# EAGLE library part 54104-4031 (library 54104-4031)
Connector 0.5mm, FFC/FPC, SMT,r/a,40w,Au Molex FFC/FPC SMT Series 0.5mm Pitch 40 Way Right Angle SMT Female FPC Connector, ZIF Top Contact Source: Datasheet <http://www.molex.com/webdocs/datasheets/pdf/en-us//0541044031_FFC_FPC_CONNECTORS.pdf>
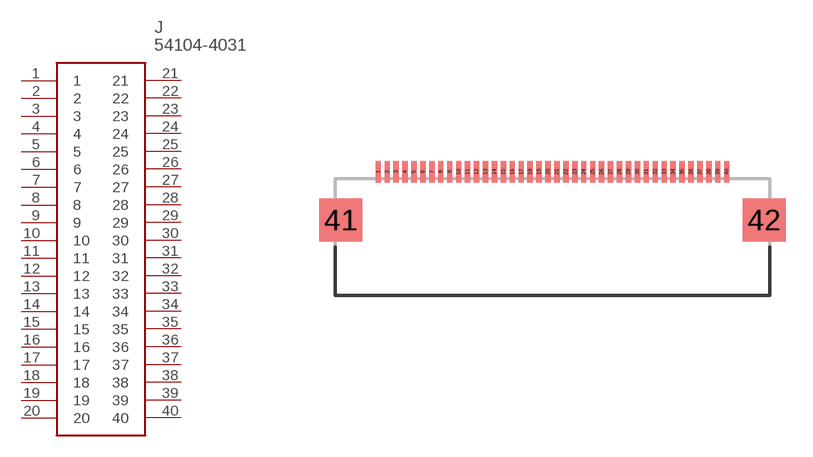
[diagram p0: symbol with the pads of 54104-4031; footprint 54104-4031]

Designator prefix J

## 54104-4031 (Description: Connector 0.5mm, FFC/FPC, SMT,r/a,40w,Au Molex FFC/FPC SMT Series 0.5mm Pitch 40 Way Right Angle SMT Female FPC Connector, ZIF Top Contact; Height: mm; Manufacturer_Name: Molex; Manufacturer_Part_Number: 54104-4031; Mouser_Part_Number: 538-54104-4031; Mouser_Price-Stock: https://www.mouser.co.uk/ProductDetail/Molex/54104-4031?qs=OdNwOVlk5%2FgBUEuya%2FAfOQ%3D%3D)  [54104-4031]
1  1
2  2
3  3
4  4
5  5
6  6
7  7
8  8
9  9
10  10
11  11
12  12
13  13
14  14
15  15
16  16
17  17
18  18
19  19
20  20
21  21
22  22
23  23
24  24
25  25
26  26
27  27
28  28
29  29
30  30
31  31
32  32
33  33
34  34
35  35
36  36
37  37
38  38
39  39
40  40

## Footprint 54104-4031 (pad centres in mm)
54104-4031
smd 0.3 x 1.2: 1 -9.75,0.382; 2 -9.25,0.382; 3 -8.75,0.382; 4 -8.25,0.382; 5 -7.75,0.382; 6 -7.25,0.382; 7 -6.75,0.382; 8 -6.25,0.382; 9 -5.75,0.382; 10 -5.25,0.382; 11 -4.75,0.382; 12 -4.25,0.382; 13 -3.75,0.382; 14 -3.25,0.382; 15 -2.75,0.382; 16 -2.25,0.382; 17 -1.75,0.382; 18 -1.25,0.382; 19 -0.75,0.382; 20 -0.25,0.382; 21 0.25,0.382; 22 0.75,0.382; 23 1.25,0.382; 24 1.75,0.382; 25 2.25,0.382; 26 2.75,0.382; 27 3.25,0.382; 28 3.75,0.382; 29 4.25,0.382; 30 4.75,0.382; 31 5.25,0.382; 32 5.75,0.382; 33 6.25,0.382; 34 6.75,0.382; 35 7.25,0.382; 36 7.75,0.382; 37 8.25,0.382; 38 8.75,0.382; 39 9.25,0.382; 40 9.75,0.382
smd 2.4 x 2.4: 41 -11.85,-2.318; 42 11.85,-2.318